# EAGLE library part RP2040 (library MCU)
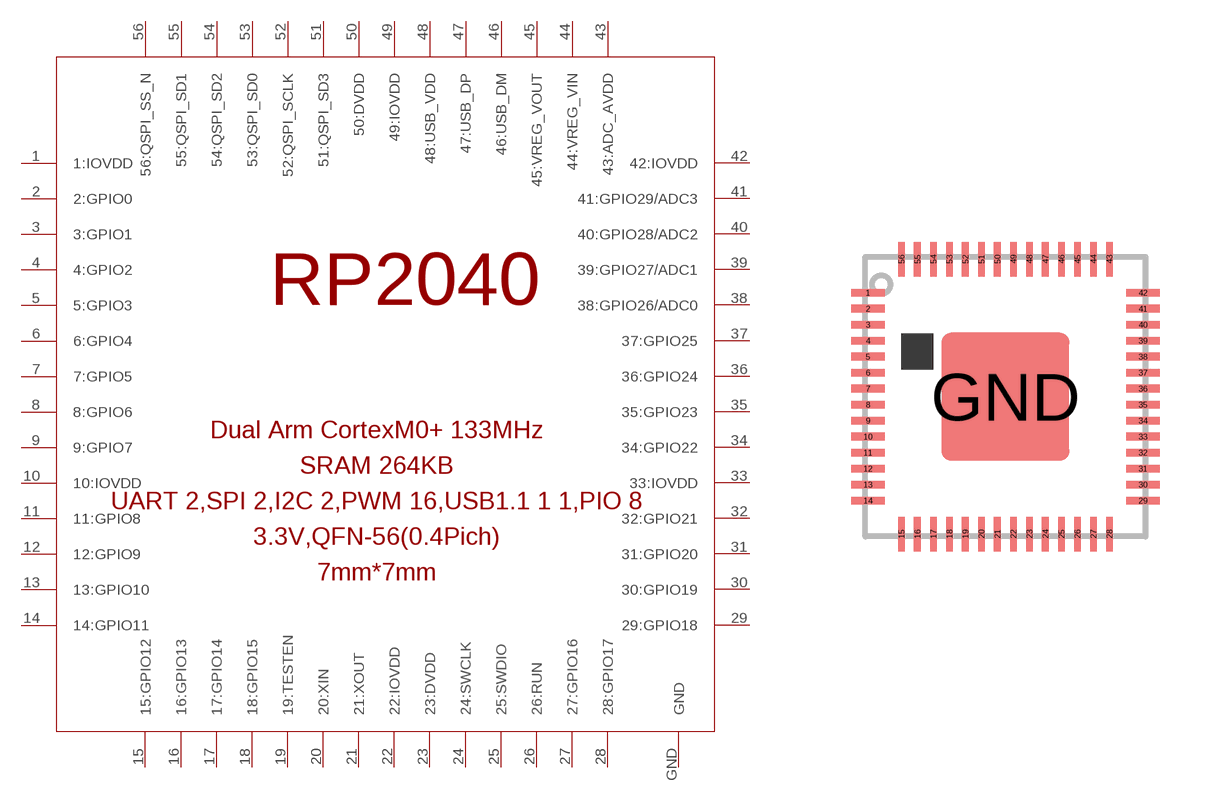
[diagram p0: symbol with the pads of RP2040; footprint RP2040]

Designator prefix -

## RP2040  [RP2040]
1  1:IOVDD
2  2:GPIO0
3  3:GPIO1
4  4:GPIO2
5  5:GPIO3
6  6:GPIO4
7  7:GPIO5
8  8:GPIO6
9  9:GPIO7
10  10:IOVDD
11  11:GPIO8
12  12:GPIO9
13  13:GPIO10
14  14:GPIO11
15  15:GPIO12
16  16:GPIO13
17  17:GPIO14
18  18:GPIO15
19  19:TESTEN
20  20:XIN
21  21:XOUT
22  22:IOVDD
23  23:DVDD
24  24:SWCLK
25  25:SWDIO
26  26:RUN
27  27:GPIO16
28  28:GPIO17
29  29:GPIO18
30  30:GPIO19
31  31:GPIO20
32  32:GPIO21
33  33:IOVDD
34  34:GPIO22
35  35:GPIO23
36  36:GPIO24
37  37:GPIO25
38  38:GPIO26/ADC0
39  39:GPIO27/ADC1
40  40:GPIO28/ADC2
41  41:GPIO29/ADC3
42  42:IOVDD
43  43:ADC_AVDD
44  44:VREG_VIN
45  45:VREG_VOUT
46  46:USB_DM
47  47:USB_DP
48  48:USB_VDD
49  49:IOVDD
50  50:DVDD
51  51:QSPI_SD3
52  52:QSPI_SCLK
53  53:QSPI_SD0
54  54:QSPI_SD2
55  55:QSPI_SD1
56  56:QSPI_SS_N
GND  GND

## Footprint RP2040 (pad centres in mm)
smd 0.875 x 0.2: 1 -3.438,2.6; 2 -3.438,2.2; 3 -3.438,1.8; 4 -3.438,1.4; 5 -3.438,1; 6 -3.438,0.6; 7 -3.438,0.2; 8 -3.438,-0.2; 9 -3.438,-0.6; 10 -3.438,-1; 11 -3.438,-1.4; 12 -3.438,-1.8; 13 -3.438,-2.2; 14 -3.438,-2.6; 29 3.438,-2.6; 30 3.438,-2.2; 31 3.438,-1.8; 32 3.438,-1.4; 33 3.438,-1; 34 3.438,-0.6; 35 3.438,-0.2; 36 3.438,0.2; 37 3.438,0.6; 38 3.438,1; 39 3.438,1.4; 40 3.438,1.8; 41 3.438,2.2; 42 3.438,2.6
smd 0.2 x 0.875: 15 -2.6,-3.438; 16 -2.2,-3.438; 17 -1.8,-3.438; 18 -1.4,-3.438; 19 -1,-3.438; 20 -0.6,-3.438; 21 -0.2,-3.438; 22 0.2,-3.438; 23 0.6,-3.438; 24 1,-3.438; 25 1.4,-3.438; 26 1.8,-3.438; 27 2.2,-3.438; 28 2.6,-3.438; 43 2.6,3.438; 44 2.2,3.438; 45 1.8,3.438; 46 1.4,3.438; 47 1,3.438; 48 0.6,3.438; 49 0.2,3.438; 50 -0.2,3.438; 51 -0.6,3.438; 52 -1,3.438; 53 -1.4,3.438; 54 -1.8,3.438; 55 -2.2,3.438; 56 -2.6,3.438
smd 3.2 x 3.2: GND 0,0